# EAGLE library part A4988-BREAKOUT (library stepper)
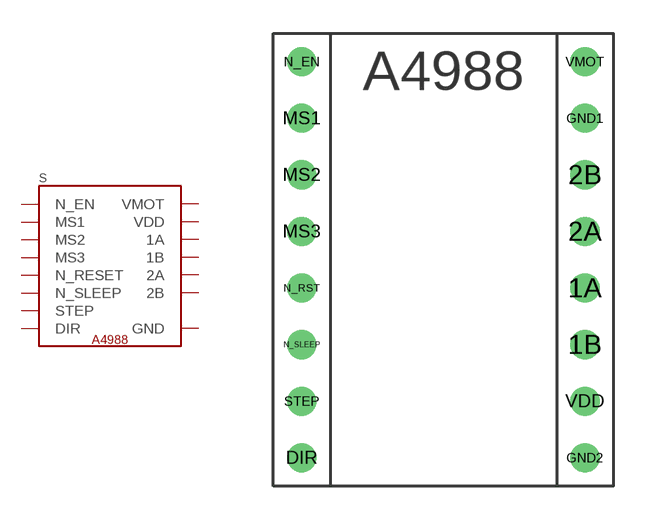
[diagram p0: symbol with the pads of A4988-BREAKOUT; footprint A4988-BREAKOUT]

Designator prefix S

## A4988-BREAKOUT  [A4988-BREAKOUT]
1A  1A
1B  1B
2A  2A
2B  2B
DIR  DIR
GND1  GND
GND2  GND
MS1  MS1
MS2  MS2
MS3  MS3
N_EN  N_EN
N_RST  N_RESET
N_SLEEP  N_SLEEP
STEP  STEP
VDD  VDD
VMOT  VMOT

## Footprint A4988-BREAKOUT (pad centres in mm)
drill 0.8: 1A 6.35,-1.27; 1B 6.35,-3.81; 2A 6.35,1.27; 2B 6.35,3.81; DIR -6.35,-8.89; GND1 6.35,6.35; GND2 6.35,-8.89; MS1 -6.35,6.35; MS2 -6.35,3.81; MS3 -6.35,1.27; N_EN -6.35,8.89; N_RST -6.35,-1.27; N_SLEEP -6.35,-3.81; STEP -6.35,-6.35; VDD 6.35,-6.35; VMOT 6.35,8.89